# Altium footprint library jetson-orin-baseboard.PcbLib: 71 footprints (part 5 of 5)
Each footprint in its own frame and in the unit in brackets; x right, y up, seen from the top. Pads: shape width x height; smd on the part's side, far side on the other; paste and mask are expansions set on the pad; w line width, h text height; cw(c..) or ccw(c..) is an arc to the next point about the centre after c.
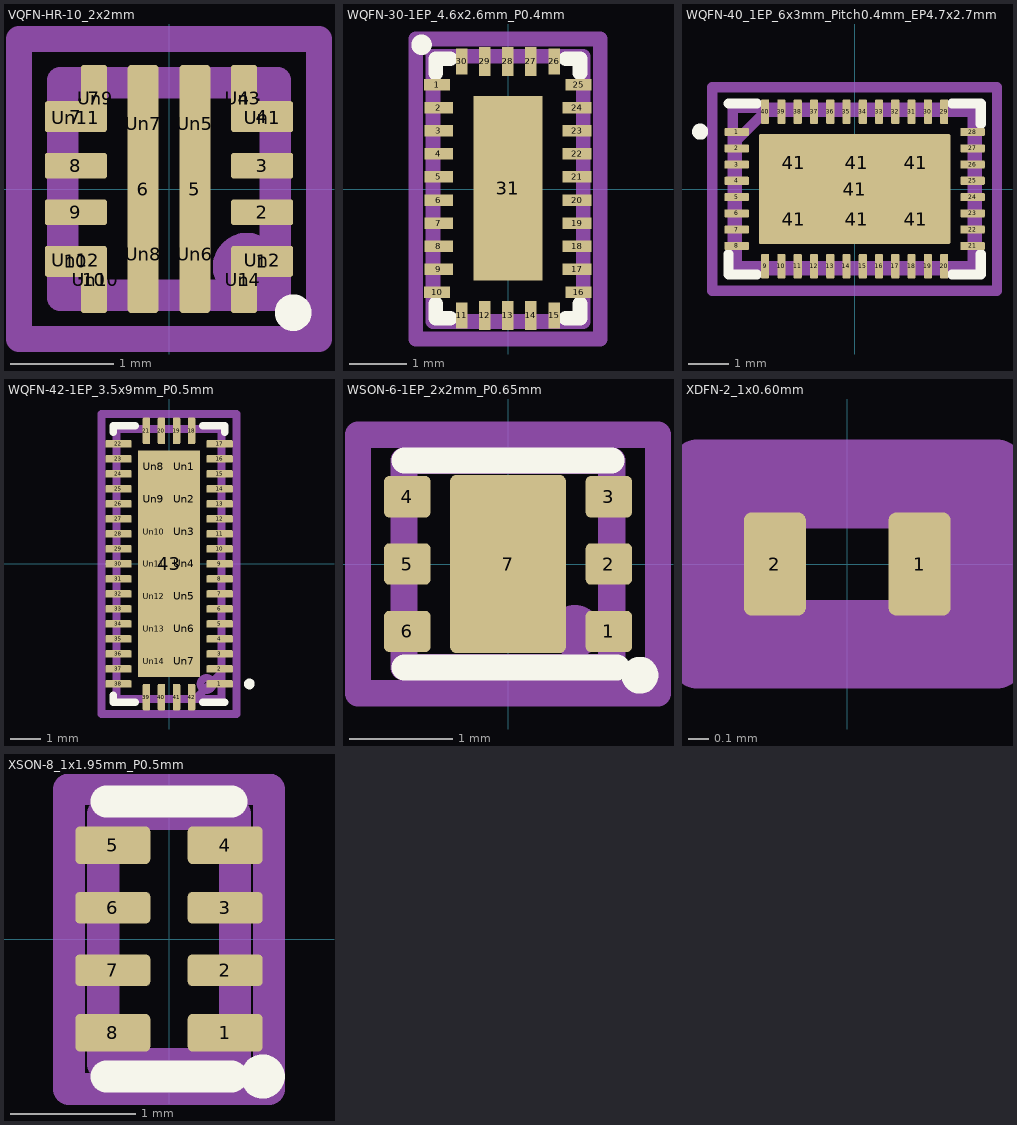
[diagram p4: the footprints below, top view; thin cyan lines are the x and y axes]

## VQFN-HR-10_2x2mm [mm]
pads (26):
  rrect20% 0.25x0.65 smd paste-0.65 mask+0: 1(0.725,-0.875) 4(0.725,0.875) 7(-0.725,0.875) 10(-0.725,-0.875)
  rrect17% 0.6x0.3 smd paste-0.6 mask+0: 1(0.9,-0.7) 4(0.9,0.7) 7(-0.9,0.7) 10(-0.9,-0.7)
  rrect20% 0.6x0.25 smd mask+0: 2(0.9,-0.225) 3(0.9,0.225) 8(-0.9,0.225) 9(-0.9,-0.225)
  rrect25% 0.3x2.4 smd paste-2.4 mask+0: 5(0.25,0) 6(-0.25,0)
  rrect50% 0.6x0.275 on Top Paste mask-0.6: Un1(0.9,0.687) Un2(0.9,-0.687) Un11(-0.9,0.687) Un12(-0.9,-0.687)
  rrect50% 0.225x0.65 on Top Paste mask-0.65: Un3(0.713,0.875) Un4(0.713,-0.875) Un9(-0.713,0.875) Un10(-0.713,-0.875)
  rrect50% 0.28x1.06 on Top Paste mask-1.06: Un5(0.25,0.63) Un6(0.25,-0.63) Un7(-0.25,0.63) Un8(-0.25,-0.63)
Top Overlay:
  circle w0.254: c1.2,-1.195 r0.05
  region: 1.162,-1.157 1.146,-1.195 1.162,-1.233 1.2,-1.249 1.238,-1.233 1.254,-1.195 1.238,-1.157 1.2,-1.141
Mechanical 1:
  lines w0.254: 0.55,-0.75 0.554,-0.789 ; 0.55,-0.75 0.554,-0.789 ; 0.55,-0.75 0.554,-0.711 ; 0.55,-0.75 0.554,-0.711 ; 0.554,-0.789 0.565,-0.827 ; 0.554,-0.789 0.565,-0.827 ; 0.554,-0.711 0.565,-0.673 ; 0.554,-0.711 0.565,-0.673 ; 0.565,-0.827 0.584,-0.861 ; 0.565,-0.827 0.584,-0.861 ; 0.565,-0.673 0.584,-0.639 ; 0.565,-0.673 0.584,-0.639 ; 0.584,-0.861 0.609,-0.891 ; 0.584,-0.861 0.609,-0.891 ; 0.584,-0.639 0.609,-0.609 ; 0.584,-0.639 0.609,-0.609 ; 0.609,-0.891 0.639,-0.916 ; 0.609,-0.891 0.639,-0.916 ; 0.609,-0.609 0.639,-0.584 ; 0.609,-0.609 0.639,-0.584 ; 0.639,-0.916 0.673,-0.935 ; 0.639,-0.916 0.673,-0.935 ; 0.639,-0.584 0.673,-0.565 ; 0.639,-0.584 0.673,-0.565 ; 0.673,-0.935 0.711,-0.946 ; 0.673,-0.935 0.711,-0.946 ; 0.673,-0.565 0.711,-0.554 ; 0.673,-0.565 0.711,-0.554 ; 0.711,-0.946 0.75,-0.95 ; 0.711,-0.946 0.75,-0.95 ; 0.711,-0.554 0.75,-0.55 ; 0.711,-0.554 0.75,-0.55 ; 0.75,-0.95 0.789,-0.945 ; 0.75,-0.95 0.789,-0.945 ; 0.75,-0.55 0.789,-0.554 ; 0.75,-0.55 0.789,-0.554 ; 0.789,-0.945 0.827,-0.934 ; 0.789,-0.945 0.827,-0.934 ; 0.789,-0.554 0.827,-0.565 ; 0.789,-0.554 0.827,-0.565 ; 0.827,-0.934 0.861,-0.915 ; 0.827,-0.934 0.861,-0.915 ; 0.827,-0.565 0.861,-0.584 ; 0.827,-0.565 0.861,-0.584 ; 0.861,-0.915 0.891,-0.89 ; 0.861,-0.915 0.891,-0.89 ; 0.861,-0.584 0.891,-0.609 ; 0.861,-0.584 0.891,-0.609 ; 0.891,-0.89 0.916,-0.86 ; 0.891,-0.89 0.916,-0.86 ; 0.891,-0.609 0.916,-0.639 ; 0.891,-0.609 0.916,-0.639 ; 0.916,-0.86 0.935,-0.827 ; 0.916,-0.86 0.935,-0.827 ; 0.916,-0.639 0.935,-0.673 ; 0.916,-0.639 0.935,-0.673 ; 0.935,-0.827 0.946,-0.789 ; 0.935,-0.827 0.946,-0.789 ; 0.935,-0.673 0.946,-0.711 ; 0.935,-0.673 0.946,-0.711 ; 0.946,-0.789 0.95,-0.75 ; 0.946,-0.789 0.95,-0.75 ; 0.946,-0.711 0.95,-0.75 ; 0.946,-0.711 0.95,-0.75 ; -1.05,-1.05 1.05,-1.05 1.05,1.05 -1.05,1.05 -1.05,-1.05
Mechanical 11:
  lines w0.254: -1,-1 0.5,-1 1,-0.5 1,1 -1,1 -1,-1
  text "'.Designator'" at 2.701,5.95 h0.7
  text "Author: Antmicro" at 2.701,7.167 h0.7
  text "License: Apache-2.0" at 2.701,8.483 h0.7
Mechanical 16:
  lines w0.254: -1.45,-1.45 -1.45,1.45 1.45,1.45 1.45,-1.45 -1.45,-1.45

## WQFN-30-1EP_4.6x2.6mm_P0.4mm [mm]
pads (31):
  rect 0.45x0.2 smd mask+0: 1(-1.232,1.809) 10(-1.232,-1.79) 16(1.222,-1.79) 25(1.222,1.809)
  rect 0.5x0.2 smd mask+0: 2(-1.203,1.41) 3(-1.203,1.01) 4(-1.203,0.609) 5(-1.203,0.21) 6(-1.203,-0.191) 7(-1.203,-0.59) 8(-1.203,-0.99) 9(-1.203,-1.391) 17(1.196,-1.391) 18(1.196,-0.99) 19(1.196,-0.59) 20(1.196,-0.191) 21(1.196,0.21) 22(1.196,0.609) 23(1.196,1.01) 24(1.196,1.41)
  rect 0.2x0.45 smd mask+0: 11(-0.804,-2.191) 15(0.797,-2.191) 26(0.797,2.21) 30(-0.804,2.21)
  rect 0.2x0.5 smd mask+0: 12(-0.403,-2.191) 13(-0.003,-2.191) 14(0.396,-2.191) 27(0.396,2.21) 28(-0.003,2.21) 29(-0.403,2.21)
  rect 1.2x3.2 smd mask+0: 31(-0.003,0.01)
Top Overlay:
  circle w0.254: c-1.5,2.5 r0.05
  region: -1.462,2.538 -1.446,2.5 -1.462,2.462 -1.5,2.446 -1.538,2.462 -1.554,2.5 -1.538,2.538 -1.5,2.554
  lines w0.254: -1.253,-1.99 -1.253,-2.24 -1.003,-2.24 ; -1.253,2.01 -1.253,2.26 -1.003,2.26 ; 0.997,-2.24 1.247,-2.24 1.247,-1.99 ; 0.997,2.26 1.247,2.26 1.247,2.01
Mechanical 1:
  lines w0.254: -1.301,-2.298 -1.301,2.301 1.3,2.301 1.3,-2.298 -1.301,-2.298
Mechanical 5:
  lines w0.254: -1.301,-2.298 -1.301,2.301 1.3,2.301 1.3,-2.298 -1.301,-2.298
Mechanical 10:
  lines w0.254: -1.3,-2.3 -1.3,2.3 1.3,2.3 1.3,-2.3 -1.3,-2.3
  text "License: Apache-2.0" at -1.75,-7.832 h0.7
  text "Author: Antmicro" at -1.75,-6.517 h0.7
  text "'.Designator'" at -1.75,-5.3 h0.7
Mechanical 15:
  lines w0.254: -1.6,-2.6 -1.6,2.6 1.6,2.6 1.6,-2.6 -1.6,-2.6

## WQFN-40_1EP_6x3mm_Pitch0.4mm_EP4.7x2.7mm [mm]
pads (47):
  rrect25% 0.6x0.2 smd mask+0: 1(-2.9,1.401) 2(-2.9,1) 3(-2.9,0.6) 4(-2.9,0.202) 5(-2.9,-0.2) 6(-2.9,-0.598) 7(-2.9,-0.998) 8(-2.9,-1.398) 21(2.898,-1.398) 22(2.898,-0.998) 23(2.898,-0.598) 24(2.898,-0.2) 25(2.898,0.202) 26(2.898,0.6) 27(2.898,1) 28(2.898,1.401)
  rrect25% 0.2x0.6 smd mask+0: 9(-2.202,-1.898) 10(-1.801,-1.898) 11(-1.401,-1.898) 12(-1,-1.898) 13(-0.6,-1.898) 14(-0.202,-1.898) 15(0.2,-1.898) 16(0.598,-1.898) 17(0.998,-1.898) 18(1.398,-1.898) 19(1.8,-1.898) 20(2.2,-1.898) 29(2.2,1.901) 30(1.8,1.901) 31(1.398,1.901) 32(0.998,1.901) 33(0.598,1.901) 34(0.2,1.901) 35(-0.202,1.901) 36(-0.6,1.901) 37(-1,1.901) 38(-1.401,1.901) 39(-1.801,1.901) 40(-2.202,1.901)
  rrect5% 1x0.8 smd mask+0: 41(-1.5,-0.748) 41(-1.5,0.652) 41(0.05,-0.748) 41(0.05,0.652) 41(1.499,-0.748) 41(1.499,0.652)
  rrect2% 4.7x2.7 smd paste-4.7 mask+0: 41(0,0)
Top Overlay:
  circle w0.254: c-3.8,1.41 r0.071
  region: -3.746,1.464 -3.723,1.41 -3.746,1.356 -3.8,1.333 -3.854,1.356 -3.877,1.41 -3.854,1.464 -3.8,1.487
  lines w0.254: -3.101,-1.6 -3.101,-2.1 -2.4,-2.1 ; -3.101,2.101 -2.4,2.101 ; 2.398,-2.1 3.1,-2.1 3.1,-1.6 ; 2.398,2.101 3.1,2.101 3.1,1.601
Mechanical 1:
  lines w0.254: -3,-1.999 2.999,-1.999 2.999,2 -3,2 -3,-1.999
Mechanical 5:
  lines w0.254: -3,-1.999 -3,2 2.999,2 2.999,-1.999 -3,-1.999
Mechanical 10:
  lines w0.254: -2.9,-1.898 2.898,-1.898 2.898,1.901 -2.2,1.9 -2.9,1.2 -2.9,-1.898
  text "Author: Antmicro" at -2.951,-4.582 h0.7
  text "'.Designator'" at -2.951,-3.599 h0.7
  text "License: Apache-2.0" at -2.951,-5.466 h0.7
Mechanical 15:
  lines w0.254: -3.5,-2.499 -3.5,2.5 3.499,2.5 3.499,-2.499 -3.5,-2.499

## WQFN-42-1EP_3.5x9mm_P0.5mm [mm]
pads (57):
  rrect25% 0.875x0.25 smd mask+0: 1(1.688,-4) 2(1.688,-3.5) 3(1.688,-3) 4(1.688,-2.5) 5(1.688,-2) 6(1.688,-1.5) 7(1.688,-1) 8(1.688,-0.5) 9(1.688,0) 10(1.688,0.5) 11(1.688,1) 12(1.688,1.5) 13(1.688,2) 14(1.688,2.5) 15(1.688,3) 16(1.688,3.5) 17(1.688,4) 22(-1.687,4) 23(-1.687,3.5) 24(-1.687,3) 25(-1.687,2.5) 26(-1.687,2) 27(-1.687,1.5) 28(-1.687,1) 29(-1.687,0.5) 30(-1.687,0) 31(-1.687,-0.5) 32(-1.687,-1) 33(-1.687,-1.5) 34(-1.687,-2) 35(-1.687,-2.5) 36(-1.687,-3) 37(-1.687,-3.5) 38(-1.687,-4)
  rrect25% 0.25x0.875 smd mask+0: 18(0.75,4.437) 19(0.25,4.437) 20(-0.25,4.437) 21(-0.75,4.437) 39(-0.75,-4.438) 40(-0.25,-4.438) 41(0.25,-4.438) 42(0.75,-4.438)
  rect 2.05x7.55 smd paste-7.55 mask+0: 43(0,0)
  rrect50% 0.83x0.87 on Top Paste mask-0.87: Un1(0.51,3.24) Un2(0.51,2.16) Un3(0.51,1.08) Un4(0.51,0) Un5(0.51,-1.081) Un6(0.51,-2.161) Un7(0.51,-3.242) Un8(-0.508,3.24) Un9(-0.508,2.16) Un10(-0.508,1.08) Un11(-0.508,0) Un12(-0.508,-1.081) Un13(-0.508,-2.161) Un14(-0.508,-3.242)
Top Overlay:
  circle w0.254: c2.68,-4 r0.05
  region: 2.642,-3.962 2.626,-4 2.642,-4.038 2.68,-4.054 2.718,-4.038 2.734,-4 2.718,-3.962 2.68,-3.946
  lines w0.254: -1.86,-4.385 -1.86,-4.611 -1.134,-4.611 ; -1.86,4.384 -1.86,4.61 -1.134,4.61 ; 1.135,-4.611 1.861,-4.611 ; 1.135,4.61 1.861,4.61 1.861,4.384
Mechanical 1:
  drawing of 260 lines, arcs and shapes, not listed
Mechanical 5:
  lines w0.254: -1.749,-4.5 -1.749,4.498 1.75,4.498 1.75,-4.5 -1.749,-4.5
Mechanical 11:
  lines w0.254: -1.749,-4.5 0.875,-4.5 1.75,-3.625 1.75,4.498 -1.749,4.498 -1.749,-4.5
  text "License: Apache-2.0" at 2.58,9.653 h0.7
  text "'.Designator'" at 2.58,10.72 h0.7
  text "Author: Antmicro" at 2.58,8.337 h0.7
Mechanical 16:
  lines w0.254: -2.249,-5 -2.249,4.998 2.25,4.998 2.25,-5 -2.249,-5

## WSON-6-1EP_2x2mm_P0.65mm [mm]
pads (7):
  rrect25% 0.45x0.4 smd mask+0: 1(0.975,-0.652) 2(0.975,0) 3(0.975,0.65) 4(-0.973,0.65) 5(-0.973,0) 6(-0.973,-0.652)
  rrect10% 1.12x1.72 smd mask+0: 7(0,0)
Top Overlay:
  circle w0.254: c1.275,-1.075 r0.051
  region: 1.236,-1.036 1.22,-1.075 1.236,-1.114 1.275,-1.13 1.314,-1.114 1.33,-1.075 1.314,-1.036 1.275,-1.02
  lines w0.254: -1,-1 1.05,-1 ; -1,1 1,1
Mechanical 1:
  lines w0.254: -1,-0.8 -1.01,-0.8 -1.01,-0.498 -1,-0.498 ; -1,-0.148 -1.01,-0.148 -1.01,0.15 -1,0.15 ; -1,0.5 -1.01,0.5 -1.01,0.802 -1,0.802 ; 0.998,-0.8 1.009,-0.8 1.009,-0.498 0.998,-0.498 ; 0.998,-0.148 1.009,-0.148 1.009,0.15 0.998,0.15 ; 0.998,0.5 1.009,0.5 1.009,0.802 0.998,0.802 ; -1,-0.998 0.998,-0.998 0.998,1 -1,1 -1,-0.998 ; 0.525,-0.658 0.525,-0.65 0.525,-0.641 0.526,-0.632 0.527,-0.624 0.529,-0.616 0.531,-0.609 0.534,-0.601 0.537,-0.593 0.541,-0.586 0.543,-0.582 0.546,-0.579 0.548,-0.576 0.55,-0.573 0.553,-0.57 0.556,-0.567 0.558,-0.564 0.561,-0.561 0.564,-0.558 0.567,-0.555 0.57,-0.553 0.574,-0.55 0.576,-0.548 0.579,-0.546 0.583,-0.543 0.586,-0.541 0.59,-0.539 0.593,-0.537 0.597,-0.536 0.601,-0.534 0.604,-0.533 0.608,-0.531 0.612,-0.53 0.616,-0.529 0.62,-0.528 0.624,-0.527 0.628,-0.526 0.632,-0.526 0.636,-0.525 0.641,-0.525 0.645,-0.525 0.65,-0.525 0.658,-0.525 0.666,-0.526 0.674,-0.527 0.682,-0.529 0.69,-0.531 0.697,-0.534 0.704,-0.537 0.711,-0.541 0.718,-0.546 0.724,-0.55 0.731,-0.555 0.737,-0.561 0.742,-0.567 0.748,-0.573 0.752,-0.579 0.757,-0.586 0.761,-0.593 0.764,-0.601 0.768,-0.609 0.77,-0.616 0.772,-0.624 0.773,-0.632 0.774,-0.641 0.775,-0.65 0.774,-0.658 0.773,-0.666 0.772,-0.674 0.77,-0.682 0.768,-0.689 0.764,-0.697 0.761,-0.704 0.757,-0.711 0.755,-0.715 0.752,-0.718 0.75,-0.721 0.748,-0.725 0.745,-0.728 0.742,-0.731 0.74,-0.734 0.737,-0.737 0.734,-0.74 0.731,-0.743 0.728,-0.745 0.724,-0.748 0.721,-0.75 0.718,-0.752 0.714,-0.755 0.711,-0.757 0.707,-0.759 0.704,-0.761 0.701,-0.762 0.697,-0.764 0.694,-0.765 0.69,-0.768 0.686,-0.769 0.682,-0.77 0.678,-0.771 0.674,-0.772 0.67,-0.773 0.666,-0.773 0.662,-0.774 0.658,-0.774 0.654,-0.774 0.65,-0.775 0.641,-0.774 0.632,-0.773 0.624,-0.772 0.616,-0.77 0.608,-0.768 0.601,-0.764 0.593,-0.761 0.586,-0.757 0.579,-0.752 0.574,-0.748 0.567,-0.743 0.561,-0.737 0.556,-0.731 0.55,-0.725 0.546,-0.718 0.541,-0.711 0.537,-0.704 0.534,-0.697 0.531,-0.689 0.529,-0.682 0.527,-0.674 0.526,-0.666 0.525,-0.658
Mechanical 5:
  lines w0.254: -1.009,-1 -1.009,0.998 1.01,0.998 1.01,-1 -1.009,-1
Mechanical 11:
  text "License: Apache-2.0" at 1.16,5.767 h0.7
  text "Author: Antmicro" at 1.16,4.683 h0.7
  text "'.Designator'" at 1.16,3.499 h0.7
Mechanical 16:
  lines w0.254: -1.45,-1.25 -1.45,1.25 1.45,1.25 1.45,-1.25 -1.45,-1.25

## XDFN-2_1x0.60mm [mm]
pads (2):
  rrect25% 0.3x0.5 smd mask+0: 1(0.351,0) 2(-0.349,0)
Mechanical 1:
  lines w0.254: -0.498,-0.3 -0.498,0.298 0.5,0.298 0.5,-0.3 -0.498,-0.3
Mechanical 5:
  lines w0.254: -0.5,-0.3 -0.5,0.3 0.5,0.3 0.5,-0.3 -0.5,-0.3
Mechanical 11:
  lines w0.254: -0.55,-0.35 -0.55,0.35 0.55,0.35 0.55,-0.35 -0.55,-0.35
  text "Author: Antmicro" at 0.65,4.917 h0.7
  text "License: Apache-2.0" at 0.65,6.233 h0.7
  text "'.Designator'" at 0.65,3.7 h0.7
Mechanical 16:
  lines w0.254: -0.725,-0.475 -0.725,0.475 0.725,0.475 0.725,-0.475 -0.725,-0.475

## XSON-8_1x1.95mm_P0.5mm [mm]
pads (8):
  rrect25% 0.6x0.3 smd mask+0: 1(0.45,-0.75) 4(0.45,0.75) 5(-0.45,0.75) 8(-0.45,-0.75)
  rrect25% 0.6x0.25 smd mask+0: 2(0.45,-0.25) 3(0.45,0.25) 6(-0.45,0.25) 7(-0.45,-0.25)
Top Overlay:
  circle w0.254: c0.75,-1.1 r0.049
  lines w0.254: -0.5,-1.1 0.5,-1.1 ; -0.5,1.1 0.5,1.1
Mechanical 1:
  lines w0.254: -0.524,-1 -0.524,0.998 0.527,0.998 0.527,-1 -0.524,-1
Mechanical 5:
  lines w0.254: -0.524,-1 -0.524,0.998 0.527,0.998 0.527,-1 -0.524,-1
Mechanical 11:
  lines w0.254: -0.53,-1.001 -0.53,1 0.53,1 0.53,-1.001 -0.53,-1.001
  text "License: Apache-2.0" at 0.377,8.939 h0.7
  text "'.Designator'" at 0.377,6.405 h0.7
  text "Author: Antmicro" at 0.377,7.622 h0.7
Mechanical 16:
  lines w0.254: -0.8,-1.2 -0.8,1.2 0.8,1.2 0.8,-1.2 -0.8,-1.2